# EAGLE library part MS580305BA01-00 (library MS580305BA01-00)
Dimensions: Dimensions 6.2 x 6.4 MM | Dimensions .24 x .25 INCH | Electrical Characteristics: Board Level Pressure Sensor Supply Voltage 1.8 3.6 V | Operation/Application: Pressure 5000 MBAR | Resolution .036 | Board Level Pressure Sensor Accuracy +/-120mbar | Output/Span 24 bit ADC | Other: Sensor Options No Option | Packaging Features: Board Level Pressure Sensor Package Surface Mountable | Product Type Features: Board Level Pressure Sensor Style Absolute | Board Level Pressure Sensor Type Digital Pres Source: Datasheet <https://www.te.com/commerce/DocumentDelivery/DDEController?Action=srchrtrv&DocNm=MS5803-05BA&DocType=Data Sheet&DocLang=English&PartCntxt=MS580305BA01-00&DocFormat=pdf>
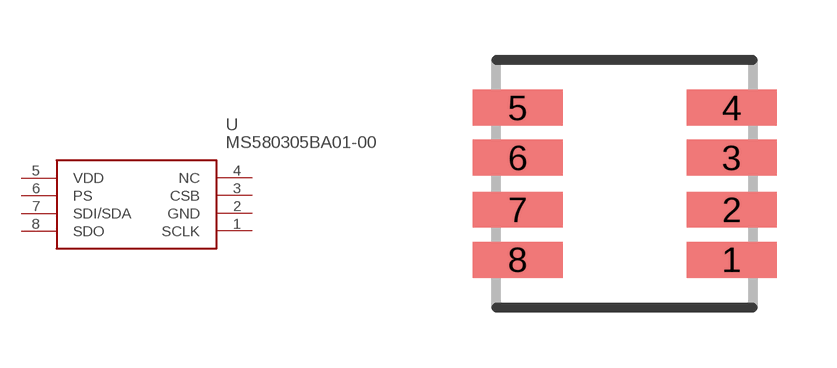
[diagram p0: symbol with the pads of MS580305BA; footprint MS580305BA]

Designator prefix U

## MS580305BA01-00 (Description: Dimensions: Dimensions 6.2 x 6.4 MM | Dimensions .24 x .25 INCH | Electrical Characteristics: Board Level Pressure Sensor Supply Voltage 1.8 3.6 V | Operation/Application: Pressure 5000 MBAR | Resolution .036 | Board Level Pressure Sensor Accuracy +/-120mbar | Output/Span 24 bit ADC | Other: Sensor Options No Option | Packaging Features: Board Level Pressure Sensor Package Surface Mountable | Product Type Features: Board Level Pressure Sensor Style Absolute | Board Level Pressure Sensor Type Digital Pres; Height: mm; Manufacturer_Name: TE Connectivity; Manufacturer_Part_Number: MS580305BA01-00; Mouser_Part_Number: 824-MS580305BA01-00; Mouser_Price-Stock: https://www.mouser.co.uk/ProductDetail/Measurement-Specialties/MS580305BA01-00?qs=oFx6pF86PmAdNB98SCP3Rg%3D%3D)  [MS580305BA]
1  SCLK
2  GND
3  CSB
4  NC  nc
5  VDD
6  PS
7  SDI/SDA
8  SDO

## Footprint MS580305BA (pad centres in mm)
MS580305BA
smd 2.25 x 0.9: 1 2.675,-1.9; 2 2.675,-0.65; 3 2.675,0.65; 4 2.675,1.9; 5 -2.675,1.9; 6 -2.675,0.65; 7 -2.675,-0.65; 8 -2.675,-1.9